# EAGLE library part W25X40CLUXIG_TR (library W25X40CLUXIG_TR)
Spiflash, 4m-Bit, 4kb Uniform Se Check availability <https://pricing.snapeda.com/parts/W25X40CLUXIG%20TR/Winbond%20Electronics/view-part?ref=eda>
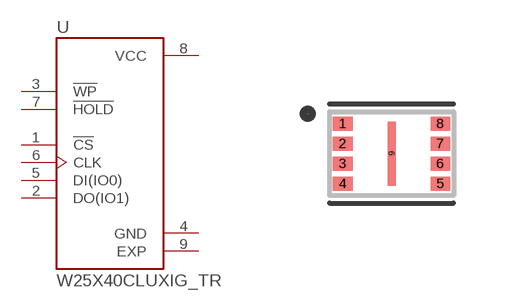
[diagram p0: symbol with the pads of PSON50P300X200X60-9N; footprint PSON50P300X200X60-9N]

Designator prefix U

## W25X40CLUXIG_TR (Availability: In Stock; Description: FLASH Memory IC 4Mb (512K x 8) SPI 104 MHz 8-USON (2x3); MF: Winbond Electronics; MP: W25X40CLUXIG TR; Package: UFDFN-8 Winbond; Price: None; Purchase-URL: https://pricing.snapeda.com/search/part/W25X40CLUXIG TR/?ref=eda)  [PSON50P300X200X60-9N]
1  !CS  in
2  DO(IO1)
3  !WP  in
4  GND  pwr
5  DI(IO0)
6  CLK  in
7  !HOLD  in
8  VCC  pwr
9  EXP  pwr

## Footprint PSON50P300X200X60-9N (pad centres in mm)
smd 0.49 x 0.35: 1 -1.22,0.75; 2 -1.22,0.25; 3 -1.22,-0.25; 4 -1.22,-0.75; 5 1.22,-0.75; 6 1.22,-0.25; 7 1.22,0.25; 8 1.22,0.75
smd 0.2 x 1.6: 9 0,0